# EAGLE library part WE-RJ45_7498210003 (library WE-RJ45_LAN)
WE-RJ45 LAN Transformer Characteristics RJ45 Connector with integrated transformer / common mode choke Power over Ethernet up to 50 Watt and speeds up to 10 Gbit/s Available in SMD, THT and THT with USB Compliant with standards: IEEE 802.3u, IEEE 802.3ab, IEEE 802.3af, IEEE 802.3at, IEEE 802.3an and upcoming IEE 802.3bt Improved Common Mode Rejection (CMRR) due to additional NiZn cores Applications Suitable for industrial temperatures from –40 °C up to +85 °C Compatible to Industrial Ethernet systems like EtherCAT or Profinet Compliant with most IC’s for Ethernet applications such as Microchip, Texas Instruments, Broadcom, Linear Technology Hubs, Routers, Switches, IP cameras, IoT applications Details see: www.we-online.com/components/products/WE-LAN-RJ45 Updated by Ella Wu 2025-04-25 2025 (C) Würth Elektronik
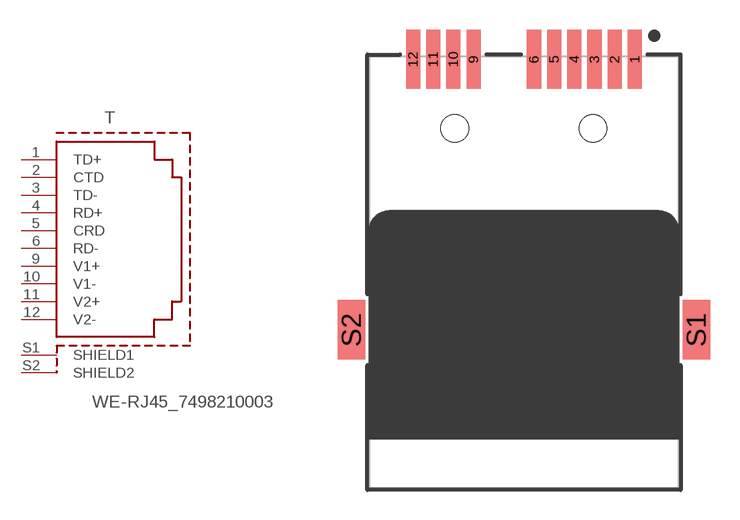
[diagram p51: symbol with the pads of 7498210003; footprint 7498210003]

Designator prefix T

## WE-RJ45_7498210003 (DATA-RATE: 10/100BASE-T; DATASHEET: https://www.we-online.com/redexpert/spec/7498210003?ae; IMPROVED-CMRR: No; LED: -; MOUNT: SMT; OPERATING-TEMPERATURE: -40 °C up to +85 °C; PART-NUMBER: 7498210003; PHY-CHIP-MODE: current & voltage; POE: PoE; PORTS: 1; SHIELD-TABS: Yes; TAB: Up; USB: No; VALUE: 7498210003)  [7498210003]
1  TD+  pas
2  CTD  pas
3  TD-  pas
4  RD+  pas
5  CRD  pas
6  RD-  pas
9  V1+  pas
10  V1-  pas
11  V2+  pas
12  V2-  pas
S1  SHIELD1  pas
S2  SHIELD2  pas

## Footprint 7498210003 (pad centres in mm)
WE-RJ45 LAN Transformer 10/100BASE-T, Ports:1, Tab:Up
smd 0.71 x 3: 1 5.61,3.5; 2 4.59,3.5; 3 3.57,3.5; 4 2.55,3.5; 5 1.53,3.5; 6 0.51,3.5; 9 -2.55,3.5; 10 -3.57,3.5; 11 -4.59,3.5; 12 -5.61,3.5
smd 1.4 x 3: S1 8.725,-10.2; S2 -8.725,-10.2
hole 1.4 at 3.5,0
hole 1.4 at -3.5,0